# EAGLE library part LTC3025 (library PowerProducts)
LT-Spice library generated with : ltspice.ulp from: D:/Program Files (x86)/LTC/LTspiceIV/lib/sym/PowerProducts/LTC3025-1*.asy at 07.10.2012 17:10:40
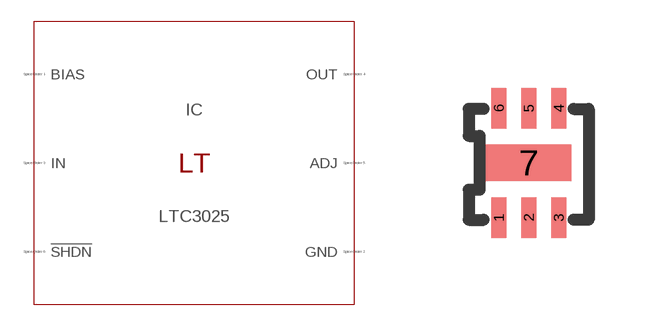
[diagram p110: symbol with the pads of DFN6(DC); footprint DFN6(DC)]

Designator prefix IC

## LTC3025 (SPICEMODEL: LTC3025.lib; SPICEPREFIX: X; VALUE2: LTC3025)  [DFN6(DC)]
1  BIAS  pas
2  GND  pas
3  IN  pas
4  OUT  pas
5  ADJ  pas
6  !SHDN  pas
7  GND  pas

## Footprint DFN6(DC) (pad centres in mm)
Package generated from: DFN6(DC).asc (!PADS-POWERPCB-V5.0-BASIC! DESIGN DATABASE ASCII FILE 1.0) with :import-pads-powerpcb-v5.ulp Version 1.0.1 at 04.10.2012 14:11:17
smd 0.375 x 1.012: 1 -0.75,-1.369; 2 0,-1.369; 3 0.75,-1.369; 4 0.75,1.369; 5 0,1.369; 6 -0.75,1.369
smd 2.13 x 0.915: 7 0,0